# EAGLE library part ADG453 (library ic)
ADG453: Quad SPST analog switch (Analog Devices) 2 "on" switches, 2 "off" switches ±15V, 5Ω Ron, 220ns tswitch TTL level inputs, separate digital supply
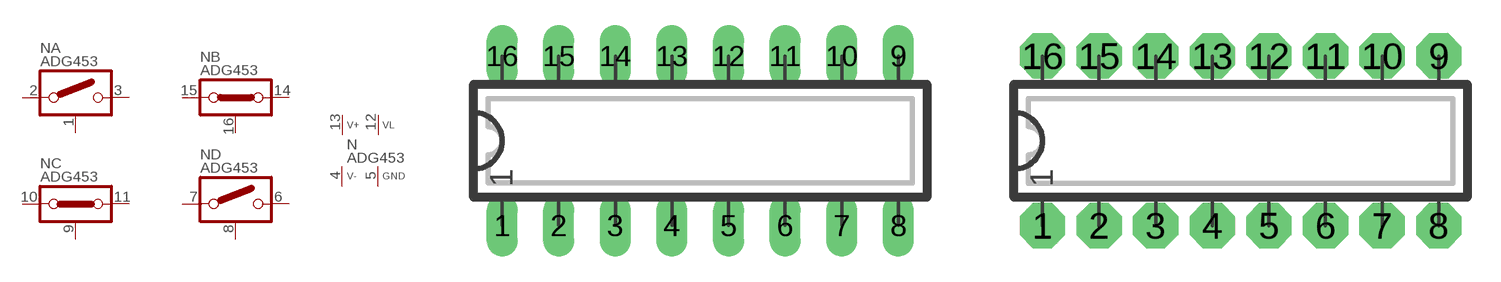
[diagram p58: symbol with the pads of DIP16L; footprints DIP16L, DIP16N]

Designator prefix N; gates P=V+-LGND A=SD1X1ON B=SD1X1OFF C=SD1X1OFF D=SD1X1ON

## ADG453  [DIP16L]
1  A:D  in
2  A:S1
3  A:S2
4  P:V-  pwr
5  P:GND  pwr
6  D:S2
7  D:S1
8  D:D  in
9  C:D  in
10  C:S1
11  C:S2
12  P:VL  pwr
13  P:V+  pwr
14  B:S2
15  B:S1
16  B:D  in

## ADG453L  [DIP16L]
Pads as for DIP16L

## ADG453N  [DIP16N]
Pads as for DIP16L

## ADG453R  [DIP16R]
Pads as for DIP16L

## ADG453S  [SO16]
Pads as for DIP16L

## Footprint DIP16L (pad centres in mm)
DIP-16, long pads Standard IC package, 16 pins
drill 0.813 pad 1.397 long: 1 -8.89,-3.81; 2 -6.35,-3.81; 3 -3.81,-3.81; 4 -1.27,-3.81; 5 1.27,-3.81; 6 3.81,-3.81; 7 6.35,-3.81; 8 8.89,-3.81; 9 8.89,3.81; 10 6.35,3.81; 11 3.81,3.81; 12 1.27,3.81; 13 -1.27,3.81; 14 -3.81,3.81; 15 -6.35,3.81; 16 -8.89,3.81

## Footprint DIP16N (pad centres in mm)
DIP-16 Standard IC package, 16 pins
drill 0.813 pad 2.032 octagon: 1 -8.89,-3.81; 2 -6.35,-3.81; 3 -3.81,-3.81; 4 -1.27,-3.81; 5 1.27,-3.81; 6 3.81,-3.81; 7 6.35,-3.81; 8 8.89,-3.81; 9 8.89,3.81; 10 6.35,3.81; 11 3.81,3.81; 12 1.27,3.81; 13 -1.27,3.81; 14 -3.81,3.81; 15 -6.35,3.81; 16 -8.89,3.81

## Footprint DIP16R (pad centres in mm)
DIP-16, reduced pads Standard IC package, 16 pins
drill 0.813 pad 1.397 square: 1 -8.89,-3.81; 2 -6.35,-3.81; 3 -3.81,-3.81; 4 -1.27,-3.81; 5 1.27,-3.81; 6 3.81,-3.81; 7 6.35,-3.81; 8 8.89,-3.81; 9 8.89,3.81; 10 6.35,3.81; 11 3.81,3.81; 12 1.27,3.81; 13 -1.27,3.81; 14 -3.81,3.81; 15 -6.35,3.81; 16 -8.89,3.81

## Footprint SO16 (pad centres in mm)
SO-16, SMD SOIC IC package, 16 pins
smd 0.635 x 1.778: 1 -4.445,-2.857; 2 -3.175,-2.857; 3 -1.905,-2.857; 4 -0.635,-2.857; 5 0.635,-2.857; 6 1.905,-2.857; 7 3.175,-2.857; 8 4.445,-2.857; 9 4.445,2.857; 10 3.175,2.857; 11 1.905,2.857; 12 0.635,2.857; 13 -0.635,2.857; 14 -1.905,2.857; 15 -3.175,2.857; 16 -4.445,2.857